# Altium footprint library 12401832E402A.PcbLib: 1 footprints
Each footprint in its own frame and in the unit in brackets; x right, y up, seen from the top. Pads: shape width x height; smd on the part's side, far side on the other; paste and mask are expansions set on the pad; w line width, h text height; cw(c..) or ccw(c..) is an arc to the next point about the centre after c.
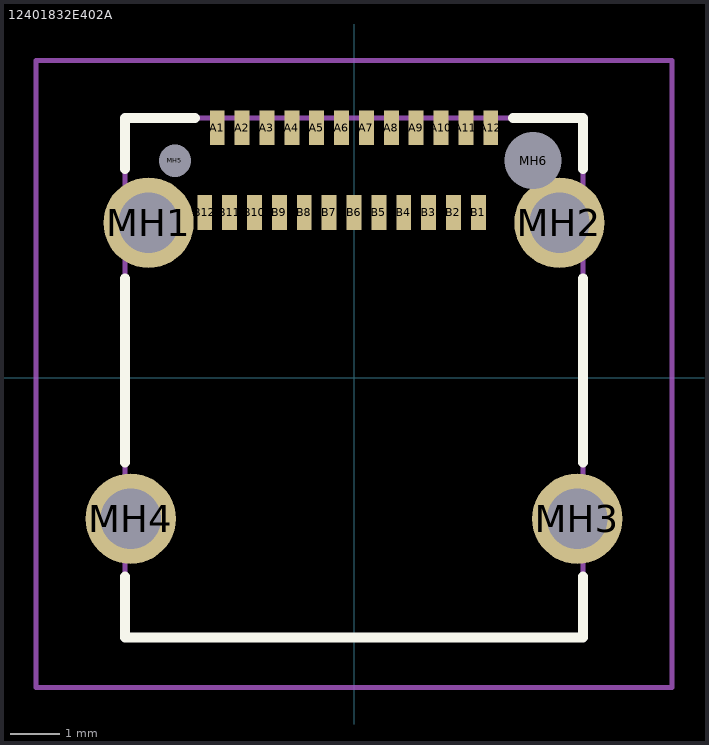
[diagram p0: the footprint, top view; thin cyan lines are the x and y axes]

## 12401832E402A [mm]
pads (30):
  rect 0.3x0.7 smd: A1(-2.75,5.025) A2(-2.25,5.025) A3(-1.75,5.025) A4(-1.25,5.025) A5(-0.75,5.025) A6(-0.25,5.025) A7(0.25,5.025) A8(0.75,5.025) A9(1.25,5.025) A10(1.75,5.025) A11(2.25,5.025) A12(2.75,5.025) B1(2.5,3.325) B2(2,3.325) B3(1.5,3.325) B4(1,3.325) B5(0.5,3.325) B6(0,3.325) B7(-0.5,3.325) B8(-1,3.325) B9(-1.5,3.325) B10(-2,3.325) B11(-2.5,3.325) B12(-3,3.325)
  round 1.815 hole 1.21: MH1(-4.13,3.115) MH2(4.13,3.115) MH3(4.49,-2.835) MH4(-4.49,-2.835)
  round 0.325 hole 0.65 unplated: MH5(-3.6,4.365)
  round 0.575 hole 1.15 unplated: MH6(3.6,4.365)
Top Overlay:
  lines w0.2: -4.6,-4 -4.6,-5.225 4.6,-5.225 4.6,-4 ; -4.6,-1.7 -4.6,2 ; -4.6,4.2 -4.6,5.225 -3.2,5.225 ; 3.2,5.225 4.6,5.225 4.6,4.2 ; 4.6,-1.7 4.6,2
Mechanical 15:
  lines w0.1: -4.6,-5.225 4.6,-5.225 4.6,5.225 -4.6,5.225 -4.6,-5.225
Mechanical 20:
  lines w0.1: -6.397,-6.225 6.397,-6.225 6.397,6.375 -6.397,6.375 -6.397,-6.225